# Altium schematic symbol library kmilo17pet-NSC_MiscPower.SchLib: 1552 symbols (part 29 of 43)
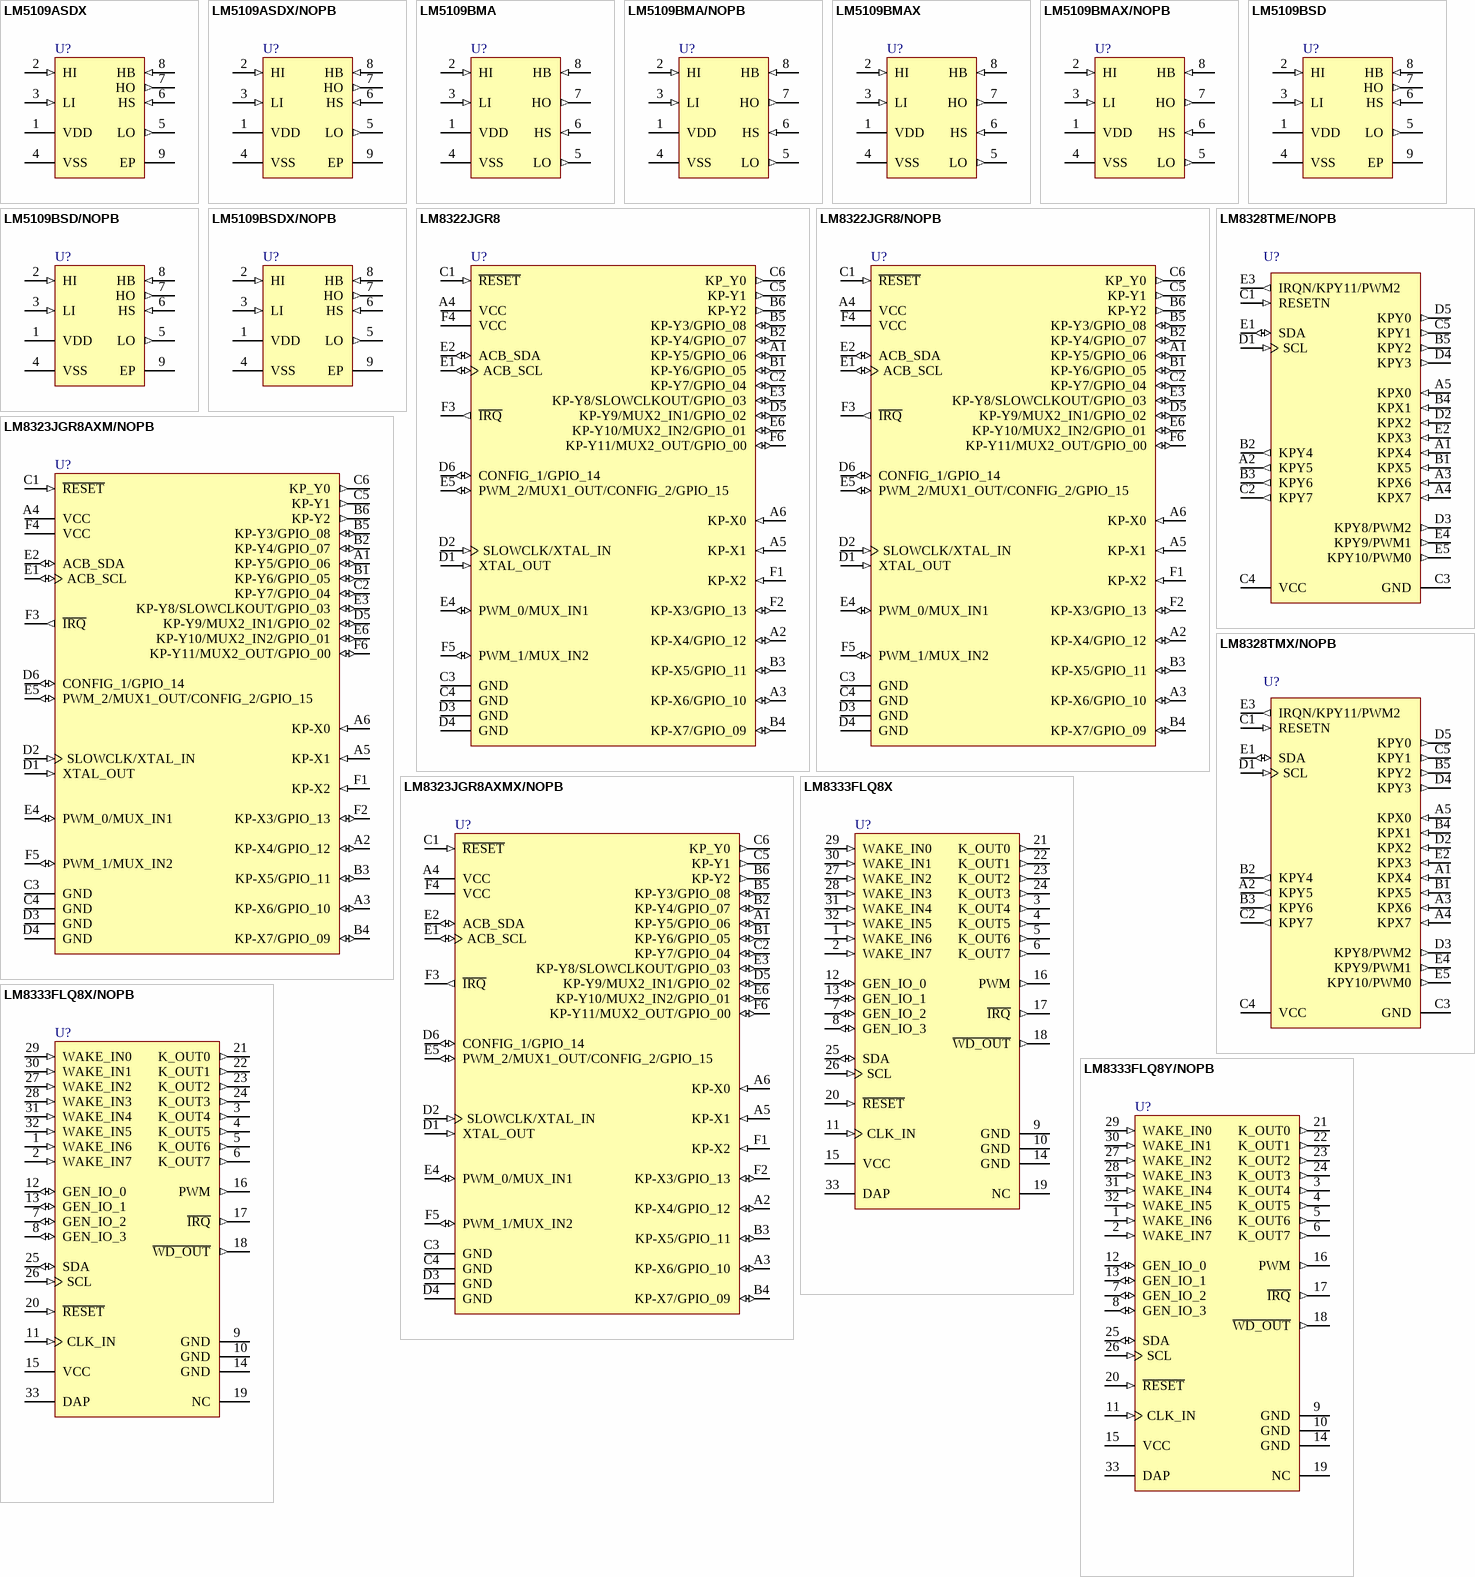
[diagram p85: symbols LM5109ASDX to LM8333FLQ8Y/NOPB]

## LM8323JGR8AXMX/NOPB
designator U?
Mobile I/O Companion Supporting Keyscan, I/O Expansion, PWM, and ACCESS.bus Host Interface, 36 pin MICRO-ARRAY; PartNumber: LM8323JGR8AXMX/NOPB; Manufacturer: National Semiconductor; PackageTopMarking: NS*UZXYTT*LM8323; PowerWise: N; CompType: MiscPower; High-Reliability: Y; DatasheetVersion: Jul-2010; PackageVersion: revA, Mar-2004; PackageReference: GRA36A; PackageDescription: Micro-Array, 3.5 x 3.5 x 1mm, 36 Ball, 0.5mm Pitch; RoHS: Y; PinCount: 36; ComponentLink1Description: Manufacturer URL; ComponentLink1URL: http://www.national.com/; ComponentLink2Description: LM8323 Datasheet; ComponentLink2URL: http://www.national.com/ds/LM/LM8323.pdf; ComponentLink3Description: LM8323 Web Page; ComponentLink3URL: http://www.national.com/pf/LM/LM8323.html; ComponentLink4Description: GRA36A Package Page; ComponentLink4URL: http://www.national.com/packaging/folders/gra36a.html
footprint GRA36A (BGA, 36-Leads, Body 3.5x3.5mm, Pitch 0.5mm, NSC Recommended)
pins: A1 KP-Y5/GPIO_06 (io) "Keyboard scanning output 5, General-purpose I/O port 6", A2 KP-X4/GPIO_12 (io) "Wake-up input/Keyboard scanning input 4, General-purpose I/O port 12", A3 KP-X6/GPIO_10 (io) "Wake-up input/Keyboard scanning input 6, General-purpose I/O port 10", A4 VCC (power), A5 KP-X1 (in) "Wake-up input/Keyboard scanning input 1", A6 KP-X0 (in) "Wake-up input/Keyboard scanning input 0", B1 KP-Y6/GPIO_05 (io) "Keyboard scanning output 6, General-purpose I/O port 5", B2 KP-Y4/GPIO_07 (io) "Keyboard scanning output 4, General-purpose I/O port 7", B3 KP-X5/GPIO_11 (io) "Wake-up input/Keyboard scanning input 5, General-purpose I/O port 11", B4 KP-X7/GPIO_09 (io) "Wake-up input/Keyboard scanning input 7, General-purpose I/O port 9", B5 KP-Y3/GPIO_08 (io) "Keyboard scanning output 3, General-purpose I/O port 8", B6 KP-Y2 (out) "Keyboard scanning output 2", C1 ~{RESET} (in) "Reset Input", C2 KP-Y7/GPIO_04 (io) "Keyboard scanning output 7, General-purpose I/O port 4", C3 GND (power) "Ground", C4 GND (power) "Ground", C5 KP-Y1 (out) "Keyboard scanning output 1", C6 KP_Y0 (out) "Keyboard scanning output 0", D1 XTAL_OUT (in) "32.768 kHz crystal output", D2 SLOWCLK/XTAL_IN (in) "32.768 kHz clock, 32.768 kHz crystal input", D3 GND (power) "Ground", D4 GND (power) "Ground", D5 KP-Y9/MUX2_IN1/GPIO_02 (io) "Keyboard scanning output 9, Multiplexer 2 input 1, General-purpose I/O port 2", D6 CONFIG_1/GPIO_14 (io) "Slave address select input 1, General-purpose I/O port 14", E1 ACB_SCL (io) "ACCESS.bus clock signal", E2 ACB_SDA (io) "ACCESS.bus data signal", E3 KP-Y8/SLOWCLKOUT/GPIO_03 (io) "Keyboard scanning output 8, 32.768 kHz clock output, General-purpose I/O port 3", E4 PWM_0/MUX_IN1 (io) "Pulse-width modulated output 0, Multiplexer 1 input 1", E5 PWM_2/MUX1_OUT/CONFIG_2/GPIO_15 (io) "Pulse-width modulated output 2, Multiplexer 1 output, Slave address select input 2, General-purpose I/O port 15", E6 KP-Y10/MUX2_IN2/GPIO_01 (io) "Keyboard scanning output 10, Multiplexer 2 input 2, General-purpose I/O port 1", F1 KP-X2 (in) "Wake-up input/Keyboard scanning input 2", F2 KP-X3/GPIO_13 (io) "Wake-up input/Keyboard scanning input 3, General-purpose I/O port 13", F3 ~{IRQ} (out) "Interrupt request output", F4 VCC (power), F5 PWM_1/MUX_IN2 (io) "Pulse-width modulated output 1, Multiplexer 1 input 2", F6 KP-Y11/MUX2_OUT/GPIO_00 (io) "Keyboard scanning output 11, Multiplexer 2 output, General-purpose I/O port 0"

## LM8328TME/NOPB
designator U?
Mobile I/O Companion Supporting Keyscan, I/O Expansion, PWM, and ACCESS.bus Host Interface, 25-pin Micro SMD, 250 Reel; PartNumber: LM8328TME/NOPB; Manufacturer: National Semiconductor; PackageTopMarking: XYTT*I 2731; PowerWise: N; CompType: MiscPower; High-Reliability: Y; DatasheetVersion: Aug-2011; PackageVersion: revC, 2009; PackageReference: TMD25AAA; PackageDescription: Thin Micro SMD, 25 Bump, 0.4mm Pitch; RoHS: Y; PinCount: 25; ComponentLink1Description: Manufacturer URL; ComponentLink1URL: http://www.national.com/; ComponentLink2Description: LM8328 Datasheet; ComponentLink2URL: http://www.national.com/ds/LM/LM8328.pdf; ComponentLink3Description: LM8328 Web Page; ComponentLink3URL: http://www.national.com/pf/LM/LM8328.html; ComponentLink4Description: TMD25AAA Package Page; ComponentLink4URL: http://www.national.com/packaging/folders/tmd25aaa.html
footprint TMD25AAA (Micro SMD, 25-Leads, Body 2.02x2.02mm, Pitch 0.4mm, NSC Recommended)
pins: A1 KPX4 (in), A2 KPY5 (out), A3 KPX6 (in), A4 KPX7 (in), A5 KPX0 (in), B1 KPX5 (in), B2 KPY4 (out), B3 KPY6 (out), B4 KPX1 (in), B5 KPY2 (out), C1 RESETN (in), C2 KPY7 (out), C3 GND (power), C4 VCC (power), C5 KPY1 (out), D1 SCL (in), D2 KPX2 (in), D3 KPY8/PWM2 (out), D4 KPY3 (out), D5 KPY0 (out), E1 SDA (io), E2 KPX3 (in), E3 IRQN/KPY11/PWM2 (out), E4 KPY9/PWM1 (out), E5 KPY10/PWM0 (out)

## LM8328TMX/NOPB
designator U?
Mobile I/O Companion Supporting Keyscan, I/O Expansion, PWM, and ACCESS.bus Host Interface, 25-pin Micro SMD, 3000 Reel; PartNumber: LM8328TMX/NOPB; Manufacturer: National Semiconductor; PackageTopMarking: XYTT*I 2731; PowerWise: N; CompType: MiscPower; High-Reliability: Y; DatasheetVersion: Aug-2011; PackageVersion: revC, 2009; PackageReference: TMD25AAA; PackageDescription: Thin Micro SMD, 25 Bump, 0.4mm Pitch; RoHS: Y; PinCount: 25; ComponentLink1Description: Manufacturer URL; ComponentLink1URL: http://www.national.com/; ComponentLink2Description: LM8328 Datasheet; ComponentLink2URL: http://www.national.com/ds/LM/LM8328.pdf; ComponentLink3Description: LM8328 Web Page; ComponentLink3URL: http://www.national.com/pf/LM/LM8328.html; ComponentLink4Description: TMD25AAA Package Page; ComponentLink4URL: http://www.national.com/packaging/folders/tmd25aaa.html
footprint TMD25AAA (Micro SMD, 25-Leads, Body 2.02x2.02mm, Pitch 0.4mm, NSC Recommended)
pins: A1 KPX4 (in), A2 KPY5 (out), A3 KPX6 (in), A4 KPX7 (in), A5 KPX0 (in), B1 KPX5 (in), B2 KPY4 (out), B3 KPY6 (out), B4 KPX1 (in), B5 KPY2 (out), C1 RESETN (in), C2 KPY7 (out), C3 GND (power), C4 VCC (power), C5 KPY1 (out), D1 SCL (in), D2 KPX2 (in), D3 KPY8/PWM2 (out), D4 KPY3 (out), D5 KPY0 (out), E1 SDA (io), E2 KPX3 (in), E3 IRQN/KPY11/PWM2 (out), E4 KPY9/PWM1 (out), E5 KPY10/PWM0 (out)

## LM8333FLQ8X
designator U?
Mobile I/O Companion Supporting Key-Scan, I/O Expansion, PWM, and ACCESS.bus Host Interface, 32-pin LLP; PartNumber: LM8333FLQ8X; Manufacturer: National Semiconductor; PackageTopMarking: NS*UZXYTT*LM8333F; PowerWise: N; CompType: MiscPower; High-Reliability: Y; DatasheetVersion: May-2010; PackageVersion: revA, Feb-2001; PackageReference: LQA32A; PackageDescription: LLP, Plastic, Quad, 6 x 6 x 0.8mm Body, 32 Lead, 0.5mm Pitch; RoHS: Y; PinCount: 32; ComponentLink1Description: Manufacturer URL; ComponentLink1URL: http://www.national.com/; ComponentLink2Description: LM8333 Datasheet; ComponentLink2URL: http://www.national.com/ds/LM/LM8333.pdf; ComponentLink3Description: LM8333 Web Page; ComponentLink3URL: http://www.national.com/pf/LM/LM8333.html; ComponentLink4Description: LQA32A Package Page; ComponentLink4URL: http://www.national.com/packaging/folders/lqa32a.html
footprint LQA32A (PQFN, 32-Leads, Body 6x6mm, Pitch 0.5mm, Thermal Pad 4.3x4.3mm, NSC Recommended)
pins: 1 WAKE_IN6 (in) "Wake-up input/Keyboard scanning input 6", 2 WAKE_IN7 (in) "Wake-up input/Keyboard scanning input 7", 3 K_OUT4 (out) "Keyboard scanning output 4", 4 K_OUT5 (out) "Keyboard scanning output 5", 5 K_OUT6 (out) "Keyboard scanning output 6", 6 K_OUT7 (out) "Keyboard scanning output 7", 7 GEN_IO_2 (io) "General-purpose I/O 2", 8 GEN_IO_3 (io) "General-purpose I/O 3", 9 GND (power) "Ground", 10 GND (power) "Ground", 11 CLK_IN (in) "Clock input", 12 GEN_IO_0 (io) "General-purpose I/O 0", 13 GEN_IO_1 (io) "General-purpose I/O 1", 14 GND (power) "Ground", 15 VCC (power) "Vcc", 16 PWM (out) "Pulse-width modulated output", 17 ~{IRQ} (out) "Interrupt request output", 18 ~{WD_OUT} (out) "Watchdog timer output", 19 NC "No connect", 20 ~{RESET} (in) "Reset input", 21 K_OUT0 (out) "Keyboard scanning output 0", 22 K_OUT1 (out) "Keyboard scanning output 1", 23 K_OUT2 (out) "Keyboard scanning output 2", 24 K_OUT3 (out) "Keyboard scanning output 3", 25 SDA (io) "ACCESS.bus data signal", 26 SCL (in) "ACCESS.bus clock signal", 27 WAKE_IN2 (in) "Wake-up input/Keyboard scanning input 2", 28 WAKE_IN3 (in) "Wake-up input/Keyboard scanning input 3", 29 WAKE_IN0 (in) "Wake-up input/Keyboard scanning input 0", 30 WAKE_IN1 (in) "Wake-up input/Keyboard scanning input 1", 31 WAKE_IN4 (in) "Wake-up input/Keyboard scanning input 4", 32 WAKE_IN5 (in) "Wake-up input/Keyboard scanning input 5", 33 DAP (power) "Ground"

## LM8333FLQ8X/NOPB
designator U?
Mobile I/O Companion Supporting Key-Scan, I/O Expansion, PWM, and ACCESS.bus Host Interface, 32-pin LLP, Pb-Free; PartNumber: LM8333FLQ8X/NOPB; Manufacturer: National Semiconductor; PackageTopMarking: NS*UZXYTTE#*LM8333F; PowerWise: N; CompType: MiscPower; High-Reliability: Y; DatasheetVersion: May-2010; PackageVersion: revA, Feb-2001; PackageReference: LQA32A; PackageDescription: LLP, Plastic, Quad, 6 x 6 x 0.8mm Body, 32 Lead, 0.5mm Pitch; RoHS: Y; PinCount: 32; ComponentLink1Description: Manufacturer URL; ComponentLink1URL: http://www.national.com/; ComponentLink2Description: LM8333 Datasheet; ComponentLink2URL: http://www.national.com/ds/LM/LM8333.pdf; ComponentLink3Description: LM8333 Web Page; ComponentLink3URL: http://www.national.com/pf/LM/LM8333.html; ComponentLink4Description: LQA32A Package Page; ComponentLink4URL: http://www.national.com/packaging/folders/lqa32a.html
footprint LQA32A (PQFN, 32-Leads, Body 6x6mm, Pitch 0.5mm, Thermal Pad 4.3x4.3mm, NSC Recommended)
pins: 1 WAKE_IN6 (in) "Wake-up input/Keyboard scanning input 6", 2 WAKE_IN7 (in) "Wake-up input/Keyboard scanning input 7", 3 K_OUT4 (out) "Keyboard scanning output 4", 4 K_OUT5 (out) "Keyboard scanning output 5", 5 K_OUT6 (out) "Keyboard scanning output 6", 6 K_OUT7 (out) "Keyboard scanning output 7", 7 GEN_IO_2 (io) "General-purpose I/O 2", 8 GEN_IO_3 (io) "General-purpose I/O 3", 9 GND (power) "Ground", 10 GND (power) "Ground", 11 CLK_IN (in) "Clock input", 12 GEN_IO_0 (io) "General-purpose I/O 0", 13 GEN_IO_1 (io) "General-purpose I/O 1", 14 GND (power) "Ground", 15 VCC (power) "Vcc", 16 PWM (out) "Pulse-width modulated output", 17 ~{IRQ} (out) "Interrupt request output", 18 ~{WD_OUT} (out) "Watchdog timer output", 19 NC "No connect", 20 ~{RESET} (in) "Reset input", 21 K_OUT0 (out) "Keyboard scanning output 0", 22 K_OUT1 (out) "Keyboard scanning output 1", 23 K_OUT2 (out) "Keyboard scanning output 2", 24 K_OUT3 (out) "Keyboard scanning output 3", 25 SDA (io) "ACCESS.bus data signal", 26 SCL (in) "ACCESS.bus clock signal", 27 WAKE_IN2 (in) "Wake-up input/Keyboard scanning input 2", 28 WAKE_IN3 (in) "Wake-up input/Keyboard scanning input 3", 29 WAKE_IN0 (in) "Wake-up input/Keyboard scanning input 0", 30 WAKE_IN1 (in) "Wake-up input/Keyboard scanning input 1", 31 WAKE_IN4 (in) "Wake-up input/Keyboard scanning input 4", 32 WAKE_IN5 (in) "Wake-up input/Keyboard scanning input 5", 33 DAP (power) "Ground"

## LM8333FLQ8Y/NOPB
designator U?
Mobile I/O Companion Supporting Key-Scan, I/O Expansion, PWM, and ACCESS.bus Host Interface, 32-pin LLP, Pb-Free; PartNumber: LM8333FLQ8Y/NOPB; Manufacturer: National Semiconductor; PackageTopMarking: NS*UZXYTTE#*LM8333F; PowerWise: N; CompType: MiscPower; High-Reliability: Y; DatasheetVersion: May-2010; PackageVersion: revA, Feb-2001; PackageReference: LQA32A; PackageDescription: LLP, Plastic, Quad, 6 x 6 x 0.8mm Body, 32 Lead, 0.5mm Pitch; RoHS: Y; PinCount: 32; ComponentLink1Description: Manufacturer URL; ComponentLink1URL: http://www.national.com/; ComponentLink2Description: LM8333 Datasheet; ComponentLink2URL: http://www.national.com/ds/LM/LM8333.pdf; ComponentLink3Description: LM8333 Web Page; ComponentLink3URL: http://www.national.com/pf/LM/LM8333.html; ComponentLink4Description: LQA32A Package Page; ComponentLink4URL: http://www.national.com/packaging/folders/lqa32a.html
footprint LQA32A (PQFN, 32-Leads, Body 6x6mm, Pitch 0.5mm, Thermal Pad 4.3x4.3mm, NSC Recommended)
pins: 1 WAKE_IN6 (in) "Wake-up input/Keyboard scanning input 6", 2 WAKE_IN7 (in) "Wake-up input/Keyboard scanning input 7", 3 K_OUT4 (out) "Keyboard scanning output 4", 4 K_OUT5 (out) "Keyboard scanning output 5", 5 K_OUT6 (out) "Keyboard scanning output 6", 6 K_OUT7 (out) "Keyboard scanning output 7", 7 GEN_IO_2 (io) "General-purpose I/O 2", 8 GEN_IO_3 (io) "General-purpose I/O 3", 9 GND (power) "Ground", 10 GND (power) "Ground", 11 CLK_IN (in) "Clock input", 12 GEN_IO_0 (io) "General-purpose I/O 0", 13 GEN_IO_1 (io) "General-purpose I/O 1", 14 GND (power) "Ground", 15 VCC (power) "Vcc", 16 PWM (out) "Pulse-width modulated output", 17 ~{IRQ} (out) "Interrupt request output", 18 ~{WD_OUT} (out) "Watchdog timer output", 19 NC "No connect", 20 ~{RESET} (in) "Reset input", 21 K_OUT0 (out) "Keyboard scanning output 0", 22 K_OUT1 (out) "Keyboard scanning output 1", 23 K_OUT2 (out) "Keyboard scanning output 2", 24 K_OUT3 (out) "Keyboard scanning output 3", 25 SDA (io) "ACCESS.bus data signal", 26 SCL (in) "ACCESS.bus clock signal", 27 WAKE_IN2 (in) "Wake-up input/Keyboard scanning input 2", 28 WAKE_IN3 (in) "Wake-up input/Keyboard scanning input 3", 29 WAKE_IN0 (in) "Wake-up input/Keyboard scanning input 0", 30 WAKE_IN1 (in) "Wake-up input/Keyboard scanning input 1", 31 WAKE_IN4 (in) "Wake-up input/Keyboard scanning input 4", 32 WAKE_IN5 (in) "Wake-up input/Keyboard scanning input 5", 33 DAP (power) "Ground"

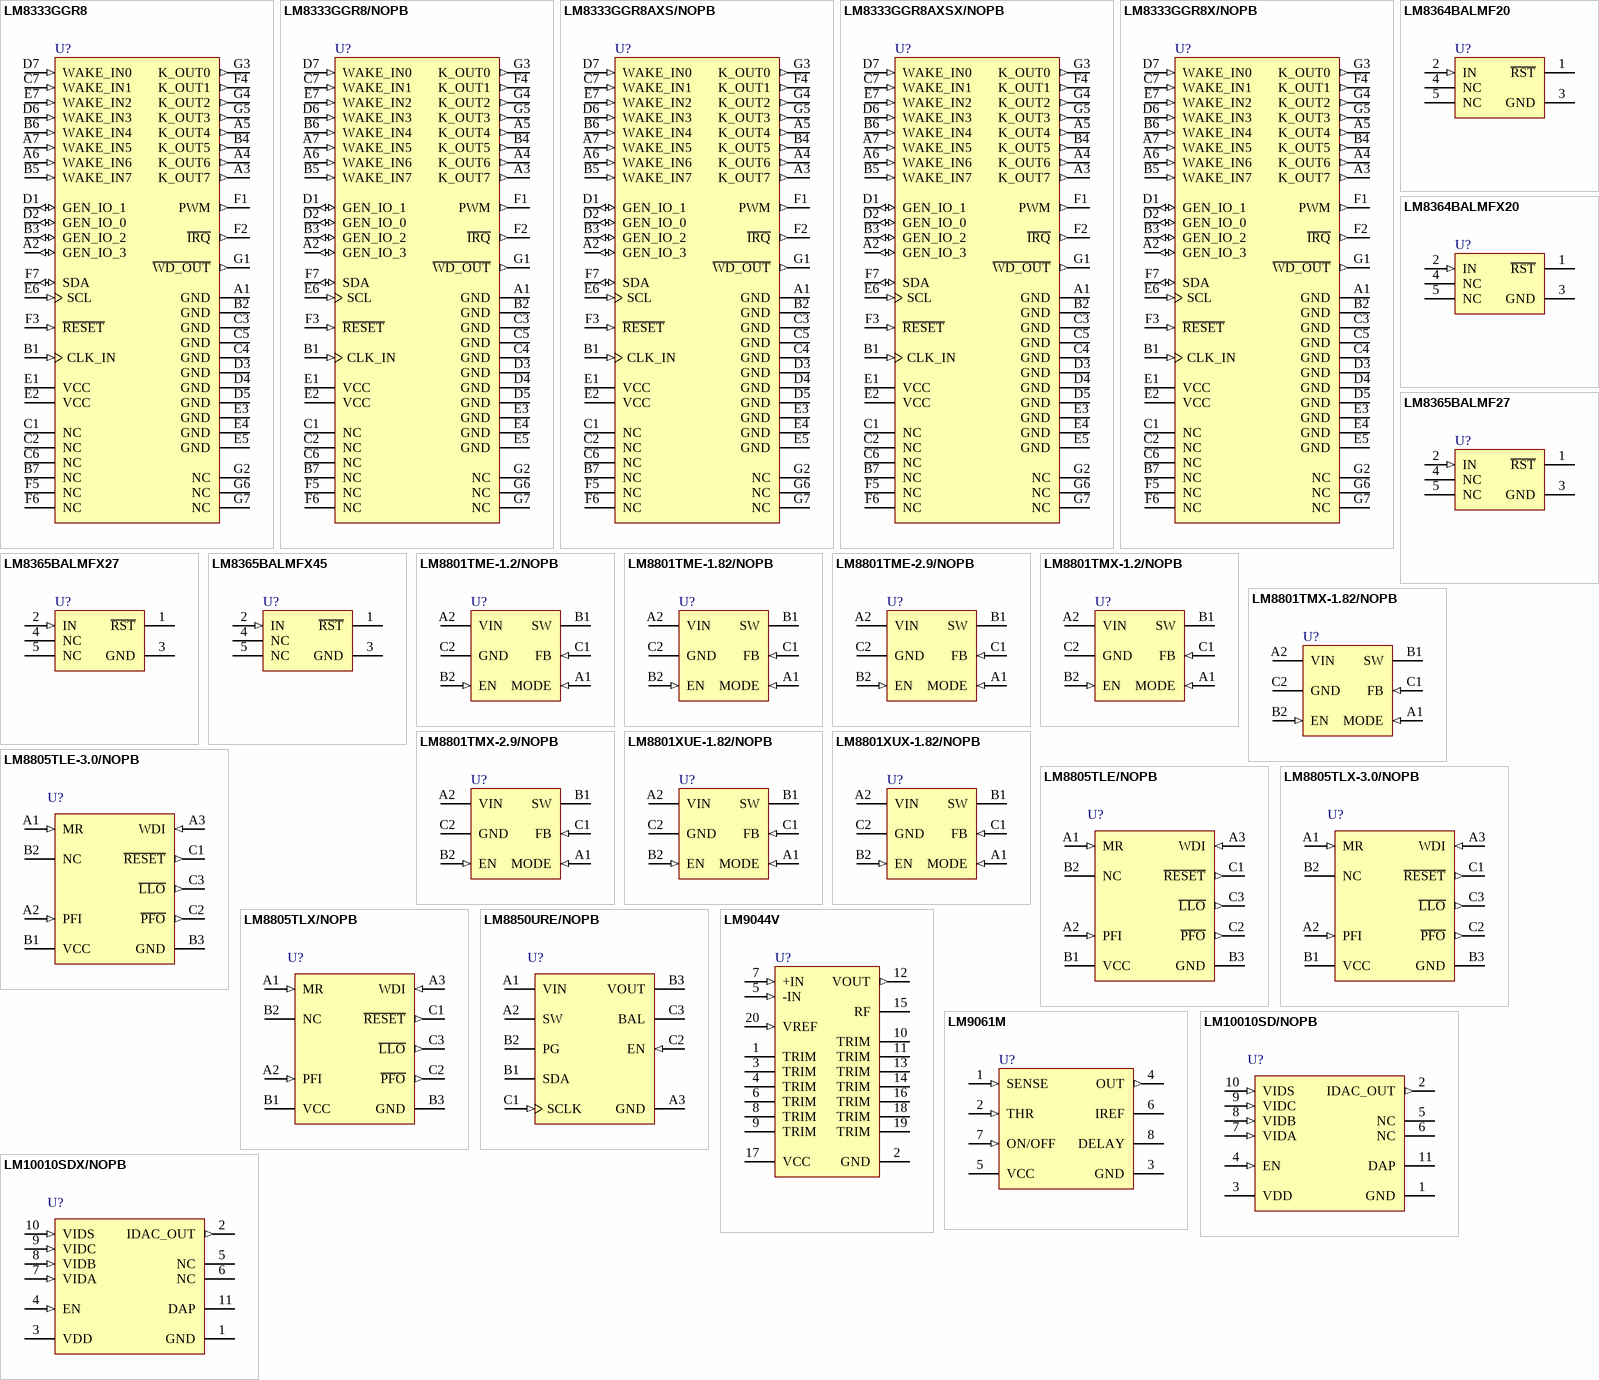
[diagram p32: symbols LM8333GGR8 to LM10010SDX/NOPB]

## LM8333GGR8
designator U?
Mobile I/O Companion Supporting Key-Scan, I/O Expansion, PWM, and ACCESS.bus Host Interface, 49-pin Micro-Array; PartNumber: LM8333GGR8; Manufacturer: National Semiconductor; PackageTopMarking: NS*UZXYTT*LM8333; PowerWise: N; CompType: MiscPower; High-Reliability: Y; DatasheetVersion: May-2010; PackageVersion: revA, Nov-2003; PackageReference: GRA49A; PackageDescription: Micro-Array, 4 x 4 x 1mm Body, 49 Ball, 0.5mm Pitch; RoHS: Y; PinCount: 49; ComponentLink1Description: Manufacturer URL; ComponentLink1URL: http://www.national.com/; ComponentLink2Description: LM8333 Datasheet; ComponentLink2URL: http://www.national.com/ds/LM/LM8333.pdf; ComponentLink3Description: LM8333 Web Page; ComponentLink3URL: http://www.national.com/pf/LM/LM8333.html; ComponentLink4Description: GRA49A Package Page; ComponentLink4URL: http://www.national.com/packaging/folders/gra49a.html
footprint GRA49A (BGA, 49-Leads, Body 4x4mm, Pitch 0.5mm, NSC Recommended)
pins: A1 GND (power) "Ground", A2 GEN_IO_3 (io) "General-purpose I/O 3", A3 K_OUT7 (out) "Keyboard scanning output 7", A4 K_OUT6 (out) "Keyboard scanning output 6", A5 K_OUT4 (out) "Keyboard scanning output 4", A6 WAKE_IN6 (in) "Wake-up input/Keyboard scanning input 6", A7 WAKE_IN5 (in) "Wake-up input/Keyboard scanning input 5", B1 CLK_IN (in) "Clock input", B2 GND (power) "Ground", B3 GEN_IO_2 (io) "General-purpose I/O 2", B4 K_OUT5 (out) "Keyboard scanning output 5", B5 WAKE_IN7 (in) "Wake-up input/Keyboard scanning input 7", B6 WAKE_IN4 (in) "Wake-up input/Keyboard scanning input 4", B7 NC "No connect", C1 NC "No connect", C2 NC "No connect", C3 GND (power) "Ground", C4 GND (power) "Ground", C5 GND (power) "Ground", C6 NC "No connect", C7 WAKE_IN1 (in) "Wake-up input/Keyboard scanning input 1", D1 GEN_IO_1 (io) "General-purpose I/O 1", D2 GEN_IO_0 (io) "General-purpose I/O 0", D3 GND (power) "Ground", D4 GND (power) "Ground", D5 GND (power) "Ground", D6 WAKE_IN3 (in) "Wake-up input/Keyboard scanning input 3", D7 WAKE_IN0 (in) "Wake-up input/Keyboard scanning input 0", E1 VCC (power) "Vcc", E2 VCC (power) "Vcc", E3 GND (power) "Ground", E4 GND (power) "Ground", E5 GND (power) "Ground", E6 SCL (in) "ACCESS.bus clock signal", E7 WAKE_IN2 (in) "Wake-up input/Keyboard scanning input 2", F1 PWM (out) "Pulse-width modulated output", F2 ~{IRQ} (out) "Interrupt request output", F3 ~{RESET} (in) "Reset input", F4 K_OUT1 (out) "Keyboard scanning output 1", F5 NC "No connect", F6 NC "No connect", F7 SDA (io) "ACCESS.bus data signal", G1 ~{WD_OUT} (out) "Watchdog timer output", G2 NC "No connect", G3 K_OUT0 (out) "Keyboard scanning output 0", G4 K_OUT2 (out) "Keyboard scanning output 2", G5 K_OUT3 (out) "Keyboard scanning output 3", G6 NC "No connect", G7 NC "No connect"

## LM8333GGR8/NOPB
designator U?
Mobile I/O Companion Supporting Key-Scan, I/O Expansion, PWM, and ACCESS.bus Host Interface, 49-pin Micro-Array, Pb-Free; PartNumber: LM8333GGR8/NOPB; Manufacturer: National Semiconductor; PackageTopMarking: NS*UZXYTT*LM8333; PowerWise: N; CompType: MiscPower; High-Reliability: Y; DatasheetVersion: May-2010; PackageVersion: revA, Nov-2003; PackageReference: GRA49A; PackageDescription: Micro-Array, 4 x 4 x 1mm Body, 49 Ball, 0.5mm Pitch; RoHS: Y; PinCount: 49; ComponentLink1Description: Manufacturer URL; ComponentLink1URL: http://www.national.com/; ComponentLink2Description: LM8333 Datasheet; ComponentLink2URL: http://www.national.com/ds/LM/LM8333.pdf; ComponentLink3Description: LM8333 Web Page; ComponentLink3URL: http://www.national.com/pf/LM/LM8333.html; ComponentLink4Description: GRA49A Package Page; ComponentLink4URL: http://www.national.com/packaging/folders/gra49a.html
footprint GRA49A (BGA, 49-Leads, Body 4x4mm, Pitch 0.5mm, NSC Recommended)
pins: A1 GND (power) "Ground", A2 GEN_IO_3 (io) "General-purpose I/O 3", A3 K_OUT7 (out) "Keyboard scanning output 7", A4 K_OUT6 (out) "Keyboard scanning output 6", A5 K_OUT4 (out) "Keyboard scanning output 4", A6 WAKE_IN6 (in) "Wake-up input/Keyboard scanning input 6", A7 WAKE_IN5 (in) "Wake-up input/Keyboard scanning input 5", B1 CLK_IN (in) "Clock input", B2 GND (power) "Ground", B3 GEN_IO_2 (io) "General-purpose I/O 2", B4 K_OUT5 (out) "Keyboard scanning output 5", B5 WAKE_IN7 (in) "Wake-up input/Keyboard scanning input 7", B6 WAKE_IN4 (in) "Wake-up input/Keyboard scanning input 4", B7 NC "No connect", C1 NC "No connect", C2 NC "No connect", C3 GND (power) "Ground", C4 GND (power) "Ground", C5 GND (power) "Ground", C6 NC "No connect", C7 WAKE_IN1 (in) "Wake-up input/Keyboard scanning input 1", D1 GEN_IO_1 (io) "General-purpose I/O 1", D2 GEN_IO_0 (io) "General-purpose I/O 0", D3 GND (power) "Ground", D4 GND (power) "Ground", D5 GND (power) "Ground", D6 WAKE_IN3 (in) "Wake-up input/Keyboard scanning input 3", D7 WAKE_IN0 (in) "Wake-up input/Keyboard scanning input 0", E1 VCC (power) "Vcc", E2 VCC (power) "Vcc", E3 GND (power) "Ground", E4 GND (power) "Ground", E5 GND (power) "Ground", E6 SCL (in) "ACCESS.bus clock signal", E7 WAKE_IN2 (in) "Wake-up input/Keyboard scanning input 2", F1 PWM (out) "Pulse-width modulated output", F2 ~{IRQ} (out) "Interrupt request output", F3 ~{RESET} (in) "Reset input", F4 K_OUT1 (out) "Keyboard scanning output 1", F5 NC "No connect", F6 NC "No connect", F7 SDA (io) "ACCESS.bus data signal", G1 ~{WD_OUT} (out) "Watchdog timer output", G2 NC "No connect", G3 K_OUT0 (out) "Keyboard scanning output 0", G4 K_OUT2 (out) "Keyboard scanning output 2", G5 K_OUT3 (out) "Keyboard scanning output 3", G6 NC "No connect", G7 NC "No connect"

## LM8333GGR8AXS/NOPB
designator U?
Mobile I/O Companion Supporting Key-Scan, I/O Expansion, PWM, and ACCESS.bus Host Interface, 49 pin MICRO-ARRAY; PartNumber: LM8333GGR8AXS/NOPB; Manufacturer: National Semiconductor; PackageTopMarking: NS*UZXYTT*8333AXS; PowerWise: N; CompType: MiscPower; High-Reliability: Y; DatasheetVersion: May-2010; PackageVersion: revA, Nov-2003; PackageReference: GRA49A; PackageDescription: Micro-Array, 4 x 4 x 1mm Body, 49 Ball, 0.5mm Pitch; RoHS: Y; PinCount: 49; ComponentLink1Description: Manufacturer URL; ComponentLink1URL: http://www.national.com/; ComponentLink2Description: LM8333 Datasheet; ComponentLink2URL: http://www.national.com/ds/LM/LM8333.pdf; ComponentLink3Description: LM8333 Web Page; ComponentLink3URL: http://www.national.com/pf/LM/LM8333.html; ComponentLink4Description: GRA49A Package Page; ComponentLink4URL: http://www.national.com/packaging/folders/gra49a.html
footprint GRA49A (BGA, 49-Leads, Body 4x4mm, Pitch 0.5mm, NSC Recommended)
pins: A1 GND (power) "Ground", A2 GEN_IO_3 (io) "General-purpose I/O 3", A3 K_OUT7 (out) "Keyboard scanning output 7", A4 K_OUT6 (out) "Keyboard scanning output 6", A5 K_OUT4 (out) "Keyboard scanning output 4", A6 WAKE_IN6 (in) "Wake-up input/Keyboard scanning input 6", A7 WAKE_IN5 (in) "Wake-up input/Keyboard scanning input 5", B1 CLK_IN (in) "Clock input", B2 GND (power) "Ground", B3 GEN_IO_2 (io) "General-purpose I/O 2", B4 K_OUT5 (out) "Keyboard scanning output 5", B5 WAKE_IN7 (in) "Wake-up input/Keyboard scanning input 7", B6 WAKE_IN4 (in) "Wake-up input/Keyboard scanning input 4", B7 NC "No connect", C1 NC "No connect", C2 NC "No connect", C3 GND (power) "Ground", C4 GND (power) "Ground", C5 GND (power) "Ground", C6 NC "No connect", C7 WAKE_IN1 (in) "Wake-up input/Keyboard scanning input 1", D1 GEN_IO_1 (io) "General-purpose I/O 1", D2 GEN_IO_0 (io) "General-purpose I/O 0", D3 GND (power) "Ground", D4 GND (power) "Ground", D5 GND (power) "Ground", D6 WAKE_IN3 (in) "Wake-up input/Keyboard scanning input 3", D7 WAKE_IN0 (in) "Wake-up input/Keyboard scanning input 0", E1 VCC (power) "Vcc", E2 VCC (power) "Vcc", E3 GND (power) "Ground", E4 GND (power) "Ground", E5 GND (power) "Ground", E6 SCL (in) "ACCESS.bus clock signal", E7 WAKE_IN2 (in) "Wake-up input/Keyboard scanning input 2", F1 PWM (out) "Pulse-width modulated output", F2 ~{IRQ} (out) "Interrupt request output", F3 ~{RESET} (in) "Reset input", F4 K_OUT1 (out) "Keyboard scanning output 1", F5 NC "No connect", F6 NC "No connect", F7 SDA (io) "ACCESS.bus data signal", G1 ~{WD_OUT} (out) "Watchdog timer output", G2 NC "No connect", G3 K_OUT0 (out) "Keyboard scanning output 0", G4 K_OUT2 (out) "Keyboard scanning output 2", G5 K_OUT3 (out) "Keyboard scanning output 3", G6 NC "No connect", G7 NC "No connect"

## LM8333GGR8AXSX/NOPB
designator U?
Mobile I/O Companion Supporting Key-Scan, I/O Expansion, PWM, and ACCESS.bus Host Interface, 49 pin MICRO-ARRAY; PartNumber: LM8333GGR8AXSX/NOPB; Manufacturer: National Semiconductor; PackageTopMarking: NS*UZXYTT*8333AXS; PowerWise: N; CompType: MiscPower; High-Reliability: Y; DatasheetVersion: May-2010; PackageVersion: revA, Nov-2003; PackageReference: GRA49A; PackageDescription: Micro-Array, 4 x 4 x 1mm Body, 49 Ball, 0.5mm Pitch; RoHS: Y; PinCount: 49; ComponentLink1Description: Manufacturer URL; ComponentLink1URL: http://www.national.com/; ComponentLink2Description: LM8333 Datasheet; ComponentLink2URL: http://www.national.com/ds/LM/LM8333.pdf; ComponentLink3Description: LM8333 Web Page; ComponentLink3URL: http://www.national.com/pf/LM/LM8333.html; ComponentLink4Description: GRA49A Package Page; ComponentLink4URL: http://www.national.com/packaging/folders/gra49a.html
footprint GRA49A (BGA, 49-Leads, Body 4x4mm, Pitch 0.5mm, NSC Recommended)
pins: A1 GND (power) "Ground", A2 GEN_IO_3 (io) "General-purpose I/O 3", A3 K_OUT7 (out) "Keyboard scanning output 7", A4 K_OUT6 (out) "Keyboard scanning output 6", A5 K_OUT4 (out) "Keyboard scanning output 4", A6 WAKE_IN6 (in) "Wake-up input/Keyboard scanning input 6", A7 WAKE_IN5 (in) "Wake-up input/Keyboard scanning input 5", B1 CLK_IN (in) "Clock input", B2 GND (power) "Ground", B3 GEN_IO_2 (io) "General-purpose I/O 2", B4 K_OUT5 (out) "Keyboard scanning output 5", B5 WAKE_IN7 (in) "Wake-up input/Keyboard scanning input 7", B6 WAKE_IN4 (in) "Wake-up input/Keyboard scanning input 4", B7 NC "No connect", C1 NC "No connect", C2 NC "No connect", C3 GND (power) "Ground", C4 GND (power) "Ground", C5 GND (power) "Ground", C6 NC "No connect", C7 WAKE_IN1 (in) "Wake-up input/Keyboard scanning input 1", D1 GEN_IO_1 (io) "General-purpose I/O 1", D2 GEN_IO_0 (io) "General-purpose I/O 0", D3 GND (power) "Ground", D4 GND (power) "Ground", D5 GND (power) "Ground", D6 WAKE_IN3 (in) "Wake-up input/Keyboard scanning input 3", D7 WAKE_IN0 (in) "Wake-up input/Keyboard scanning input 0", E1 VCC (power) "Vcc", E2 VCC (power) "Vcc", E3 GND (power) "Ground", E4 GND (power) "Ground", E5 GND (power) "Ground", E6 SCL (in) "ACCESS.bus clock signal", E7 WAKE_IN2 (in) "Wake-up input/Keyboard scanning input 2", F1 PWM (out) "Pulse-width modulated output", F2 ~{IRQ} (out) "Interrupt request output", F3 ~{RESET} (in) "Reset input", F4 K_OUT1 (out) "Keyboard scanning output 1", F5 NC "No connect", F6 NC "No connect", F7 SDA (io) "ACCESS.bus data signal", G1 ~{WD_OUT} (out) "Watchdog timer output", G2 NC "No connect", G3 K_OUT0 (out) "Keyboard scanning output 0", G4 K_OUT2 (out) "Keyboard scanning output 2", G5 K_OUT3 (out) "Keyboard scanning output 3", G6 NC "No connect", G7 NC "No connect"

## LM8333GGR8X/NOPB
designator U?
Mobile I/O Companion Supporting Key-Scan, I/O Expansion, PWM, and ACCESS.bus Host Interface, 49-pin Micro-Array, Pb-Free; PartNumber: LM8333GGR8X/NOPB; Manufacturer: National Semiconductor; PackageTopMarking: NS*UZXYTT*LM8333; PowerWise: N; CompType: MiscPower; High-Reliability: Y; DatasheetVersion: May-2010; PackageVersion: revA, Nov-2003; PackageReference: GRA49A; PackageDescription: Micro-Array, 4 x 4 x 1mm Body, 49 Ball, 0.5mm Pitch; RoHS: Y; PinCount: 49; ComponentLink1Description: Manufacturer URL; ComponentLink1URL: http://www.national.com/; ComponentLink2Description: LM8333 Datasheet; ComponentLink2URL: http://www.national.com/ds/LM/LM8333.pdf; ComponentLink3Description: LM8333 Web Page; ComponentLink3URL: http://www.national.com/pf/LM/LM8333.html; ComponentLink4Description: GRA49A Package Page; ComponentLink4URL: http://www.national.com/packaging/folders/gra49a.html
footprint GRA49A (BGA, 49-Leads, Body 4x4mm, Pitch 0.5mm, NSC Recommended)
pins: A1 GND (power) "Ground", A2 GEN_IO_3 (io) "General-purpose I/O 3", A3 K_OUT7 (out) "Keyboard scanning output 7", A4 K_OUT6 (out) "Keyboard scanning output 6", A5 K_OUT4 (out) "Keyboard scanning output 4", A6 WAKE_IN6 (in) "Wake-up input/Keyboard scanning input 6", A7 WAKE_IN5 (in) "Wake-up input/Keyboard scanning input 5", B1 CLK_IN (in) "Clock input", B2 GND (power) "Ground", B3 GEN_IO_2 (io) "General-purpose I/O 2", B4 K_OUT5 (out) "Keyboard scanning output 5", B5 WAKE_IN7 (in) "Wake-up input/Keyboard scanning input 7", B6 WAKE_IN4 (in) "Wake-up input/Keyboard scanning input 4", B7 NC "No connect", C1 NC "No connect", C2 NC "No connect", C3 GND (power) "Ground", C4 GND (power) "Ground", C5 GND (power) "Ground", C6 NC "No connect", C7 WAKE_IN1 (in) "Wake-up input/Keyboard scanning input 1", D1 GEN_IO_1 (io) "General-purpose I/O 1", D2 GEN_IO_0 (io) "General-purpose I/O 0", D3 GND (power) "Ground", D4 GND (power) "Ground", D5 GND (power) "Ground", D6 WAKE_IN3 (in) "Wake-up input/Keyboard scanning input 3", D7 WAKE_IN0 (in) "Wake-up input/Keyboard scanning input 0", E1 VCC (power) "Vcc", E2 VCC (power) "Vcc", E3 GND (power) "Ground", E4 GND (power) "Ground", E5 GND (power) "Ground", E6 SCL (in) "ACCESS.bus clock signal", E7 WAKE_IN2 (in) "Wake-up input/Keyboard scanning input 2", F1 PWM (out) "Pulse-width modulated output", F2 ~{IRQ} (out) "Interrupt request output", F3 ~{RESET} (in) "Reset input", F4 K_OUT1 (out) "Keyboard scanning output 1", F5 NC "No connect", F6 NC "No connect", F7 SDA (io) "ACCESS.bus data signal", G1 ~{WD_OUT} (out) "Watchdog timer output", G2 NC "No connect", G3 K_OUT0 (out) "Keyboard scanning output 0", G4 K_OUT2 (out) "Keyboard scanning output 2", G5 K_OUT3 (out) "Keyboard scanning output 3", G6 NC "No connect", G7 NC "No connect"

## LM8364BALMF20
designator U?
Micropower Undervoltage Sensing Circuits, Open Drain Active Low Output, 2.0V Threshold, 5-pin SOT-23; PartNumber: LM8364BALMF20; Manufacturer: National Semiconductor; PackageTopMarking: F01A*XTT; PowerWise: N; CompType: MiscPower; High-Reliability: Y; DatasheetVersion: Mar-2005; PackageVersion: revD, Aug-2008; PackageReference: MF05A; PackageDescription: Molded SOT-23, .115 x .063 x .040 in Body, 5 Lead, .0375 in Pitch; RoHS: N; PinCount: 5; ComponentLink1Description: Manufacturer URL; ComponentLink1URL: http://www.national.com/; ComponentLink2Description: LM8364 Datasheet; ComponentLink2URL: http://www.national.com/ds/LM/LM8364.pdf; ComponentLink3Description: LM8364 Web Page; ComponentLink3URL: http://www.national.com/pf/LM/LM8364.html; ComponentLink4Description: MF05A Package Page; ComponentLink4URL: http://www.national.com/packaging/folders/mf05a.html
footprint MF05A_N (SOT23, 5-Leads, Body 2.9x1.6mm, Pitch 0.95mm, Lead Span 2.8mm, IPC Medium Density)
footprint MF05A_L (SOT23, 5-Leads, Body 2.9x1.6mm, Pitch 0.95mm, Lead Span 2.8mm, IPC High Density)
footprint MF05A_M (SOT23, 5-Leads, Body 2.9x1.6mm, Pitch 0.95mm, Lead Span 2.8mm, IPC Low Density)
pins: 1 ~{RST} (oc), 2 IN (in), 3 GND (power), 4 NC, 5 NC

## LM8364BALMFX20
designator U?
Micropower Undervoltage Sensing Circuits, 5-pin SOT-23; PartNumber: LM8364BALMFX20; Manufacturer: National Semiconductor; PackageTopMarking: F01A*XTT; PowerWise: N; CompType: MiscPower; High-Reliability: Y; DatasheetVersion: Mar-2005; PackageVersion: revD, Aug-2008; PackageReference: MF05A; PackageDescription: Molded SOT-23, .115 x .063 x .040 in Body, 5 Lead, .0375 in Pitch; RoHS: N; PinCount: 5; ComponentLink1Description: Manufacturer URL; ComponentLink1URL: http://www.national.com/; ComponentLink2Description: LM8364 Datasheet; ComponentLink2URL: http://www.national.com/ds/LM/LM8364.pdf; ComponentLink3Description: LM8364 Web Page; ComponentLink3URL: http://www.national.com/pf/LM/LM8364.html; ComponentLink4Description: MF05A Package Page; ComponentLink4URL: http://www.national.com/packaging/folders/mf05a.html
footprint MF05A_N (SOT23, 5-Leads, Body 2.9x1.6mm, Pitch 0.95mm, Lead Span 2.8mm, IPC Medium Density)
footprint MF05A_L (SOT23, 5-Leads, Body 2.9x1.6mm, Pitch 0.95mm, Lead Span 2.8mm, IPC High Density)
footprint MF05A_M (SOT23, 5-Leads, Body 2.9x1.6mm, Pitch 0.95mm, Lead Span 2.8mm, IPC Low Density)
pins: 1 ~{RST} (oc), 2 IN (in), 3 GND (power), 4 NC, 5 NC

## LM8365BALMF27
designator U?
Micropower Undervoltage Sensing Circuits with Programmable Output Delay, 2.7V Threshold, 5-pin SOT-23; PartNumber: LM8365BALMF27; Manufacturer: National Semiconductor; PackageTopMarking: F07A*XTT; PowerWise: N; CompType: MiscPower; High-Reliability: Y; DatasheetVersion: Mar-2005; PackageVersion: revD, Aug-2008; PackageReference: MF05A; PackageDescription: Molded SOT-23, .115 x .063 x .040 in Body, 5 Lead, .0375 in Pitch; RoHS: N; PinCount: 5; ComponentLink1Description: Manufacturer URL; ComponentLink1URL: http://www.national.com/; ComponentLink2Description: LM8365 Datasheet; ComponentLink2URL: http://www.national.com/ds/LM/LM8365.pdf; ComponentLink3Description: LM8365 Web Page; ComponentLink3URL: http://www.national.com/pf/LM/LM8365.html; ComponentLink4Description: MF05A Package Page; ComponentLink4URL: http://www.national.com/packaging/folders/mf05a.html
footprint MF05A_N (SOT23, 5-Leads, Body 2.9x1.6mm, Pitch 0.95mm, Lead Span 2.8mm, IPC Medium Density)
footprint MF05A_L (SOT23, 5-Leads, Body 2.9x1.6mm, Pitch 0.95mm, Lead Span 2.8mm, IPC High Density)
footprint MF05A_M (SOT23, 5-Leads, Body 2.9x1.6mm, Pitch 0.95mm, Lead Span 2.8mm, IPC Low Density)
pins: 1 ~{RST} (oc), 2 IN (in), 3 GND (power), 4 NC, 5 NC

## LM8365BALMFX27
designator U?
Micropower Undervoltage Sensing Circuits with Programmable Output Delay, 5-pin SOT-23; PartNumber: LM8365BALMFX27; Manufacturer: National Semiconductor; PackageTopMarking: F07A*XTT; PowerWise: N; CompType: MiscPower; High-Reliability: Y; DatasheetVersion: Mar-2005; PackageVersion: revD, Aug-2008; PackageReference: MF05A; PackageDescription: Molded SOT-23, .115 x .063 x .040 in Body, 5 Lead, .0375 in Pitch; RoHS: N; PinCount: 5; ComponentLink1Description: Manufacturer URL; ComponentLink1URL: http://www.national.com/; ComponentLink2Description: LM8365 Datasheet; ComponentLink2URL: http://www.national.com/ds/LM/LM8365.pdf; ComponentLink3Description: LM8365 Web Page; ComponentLink3URL: http://www.national.com/pf/LM/LM8365.html; ComponentLink4Description: MF05A Package Page; ComponentLink4URL: http://www.national.com/packaging/folders/mf05a.html
footprint MF05A_N (SOT23, 5-Leads, Body 2.9x1.6mm, Pitch 0.95mm, Lead Span 2.8mm, IPC Medium Density)
footprint MF05A_L (SOT23, 5-Leads, Body 2.9x1.6mm, Pitch 0.95mm, Lead Span 2.8mm, IPC High Density)
footprint MF05A_M (SOT23, 5-Leads, Body 2.9x1.6mm, Pitch 0.95mm, Lead Span 2.8mm, IPC Low Density)
pins: 1 ~{RST} (oc), 2 IN (in), 3 GND (power), 4 NC, 5 NC

## LM8365BALMFX45
designator U?
Micropower Undervoltage Sensing Circuits with Programmable Output Delay, 5-pin SOT-23; PartNumber: LM8365BALMFX45; Manufacturer: National Semiconductor; PackageTopMarking: F06A*XTT; PowerWise: N; CompType: MiscPower; High-Reliability: Y; DatasheetVersion: Mar-2005; PackageVersion: revD, Aug-2008; PackageReference: MF05A; PackageDescription: Molded SOT-23, .115 x .063 x .040 in Body, 5 Lead, .0375 in Pitch; RoHS: N; PinCount: 5; ComponentLink1Description: Manufacturer URL; ComponentLink1URL: http://www.national.com/; ComponentLink2Description: LM8365 Datasheet; ComponentLink2URL: http://www.national.com/ds/LM/LM8365.pdf; ComponentLink3Description: LM8365 Web Page; ComponentLink3URL: http://www.national.com/pf/LM/LM8365.html; ComponentLink4Description: MF05A Package Page; ComponentLink4URL: http://www.national.com/packaging/folders/mf05a.html
footprint MF05A_N (SOT23, 5-Leads, Body 2.9x1.6mm, Pitch 0.95mm, Lead Span 2.8mm, IPC Medium Density)
footprint MF05A_L (SOT23, 5-Leads, Body 2.9x1.6mm, Pitch 0.95mm, Lead Span 2.8mm, IPC High Density)
footprint MF05A_M (SOT23, 5-Leads, Body 2.9x1.6mm, Pitch 0.95mm, Lead Span 2.8mm, IPC Low Density)
pins: 1 ~{RST} (oc), 2 IN (in), 3 GND (power), 4 NC, 5 NC

## LM8801TME-1.2/NOPB
designator U?
High Precision 6MHz, 600 mA Synchronous Step-Down DC-DC Converter for Mobile Applications, 6 pin MICRO SMD; PartNumber: LM8801TME-1.2/NOPB; Manufacturer: National Semiconductor; CompType: MiscPower; High-Reliability: Y; DatasheetVersion: Oct-2011; PackageVersion: revB, 2010; PackageReference: TMD06LCA; PackageDescription: Thin Micro SMD, 6 Bump, 0.4mm Pitch; RoHS: Y; PinCount: 6; ComponentLink1Description: Manufacturer URL; ComponentLink1URL: http://www.national.com/; ComponentLink2Description: LM8801 Datasheet; ComponentLink2URL: http://www.national.com/ds/LM/LM8801.pdf; ComponentLink3Description: LM8801 Web Page; ComponentLink3URL: http://www.national.com/pf/LM/LM8801.html; ComponentLink4Description: TMD06LCA Package Page; ComponentLink4URL: http://www.national.com/packaging/folders/tmd06lca.html
footprint TMD06LCA (Micro SMD, 6-Leads, Body 1.27x1.07mm, Pitch 0.4mm, NSC Recommended)
pins: A1 MODE (in), A2 VIN (power), B1 SW (power), B2 EN (in), C1 FB (in), C2 GND (power)

## LM8801TME-1.82/NOPB
designator U?
High Precision 6MHz, 600 mA Synchronous Step-Down DC-DC Converter for Mobile Applications, 6 pin MICRO SMD, 250 Reel; PartNumber: LM8801TME-1.82/NOPB; Manufacturer: National Semiconductor; PackageTopMarking: XV*I E; PowerWise: Y; CompType: MiscPower; DatasheetVersion: Oct-2011; PackageVersion: revB, 2010; PackageReference: TMD06LCA; PackageDescription: Thin Micro SMD, 6 Bump, 0.4mm Pitch; RoHS: Y; PinCount: 6; High-Reliability: Y; ComponentLink1Description: Manufacturer URL; ComponentLink1URL: http://www.national.com/; ComponentLink2Description: LM8801 Datasheet; ComponentLink2URL: http://www.national.com/ds/LM/LM8801.pdf; ComponentLink3Description: LM8801 Web Page; ComponentLink3URL: http://www.national.com/pf/LM/LM8801.html; ComponentLink4Description: TMD06LCA Package Page; ComponentLink4URL: http://www.national.com/packaging/folders/tmd06lca.html
footprint TMD06LCA (Micro SMD, 6-Leads, Body 1.27x1.07mm, Pitch 0.4mm, NSC Recommended)
pins: A1 MODE (in), A2 VIN (power), B1 SW (power), B2 EN (in), C1 FB (in), C2 GND (power)

## LM8801TME-2.9/NOPB
designator U?
High Precision 6MHz, 600 mA Synchronous Step-Down DC-DC Converter for Mobile Applications, 6-pin Micro SMD; PartNumber: LM8801TME-2.9/NOPB; Manufacturer: National Semiconductor; PackageTopMarking: XV*I S; PowerWise: N; CompType: MiscPower; High-Reliability: Y; DatasheetVersion: Oct-2011; PackageVersion: revB, 2010; PackageReference: TMD06LCA; PackageDescription: Thin Micro SMD, 6 Bump, 0.4mm Pitch; RoHS: Y; PinCount: 6; ComponentLink1Description: Manufacturer URL; ComponentLink1URL: http://www.national.com/; ComponentLink2Description: LM8801 Datasheet; ComponentLink2URL: http://www.national.com/ds/LM/LM8801.pdf; ComponentLink3Description: LM8801 Web Page; ComponentLink3URL: http://www.national.com/pf/LM/LM8801.html; ComponentLink4Description: TMD06LCA Package Page; ComponentLink4URL: http://www.national.com/packaging/folders/tmd06lca.html
footprint TMD06LCA (Micro SMD, 6-Leads, Body 1.27x1.07mm, Pitch 0.4mm, NSC Recommended)
pins: A1 MODE (in), A2 VIN (power), B1 SW (power), B2 EN (in), C1 FB (in), C2 GND (power)

## LM8801TMX-1.2/NOPB
designator U?
High Precision 6MHz, 600 mA Synchronous Step-Down DC-DC Converter for Mobile Applications, 6 pin MICRO SMD; PartNumber: LM8801TMX-1.2/NOPB; Manufacturer: National Semiconductor; CompType: MiscPower; High-Reliability: Y; DatasheetVersion: Oct-2011; PackageVersion: revB, 2010; PackageReference: TMD06LCA; PackageDescription: Thin Micro SMD, 6 Bump, 0.4mm Pitch; RoHS: Y; PinCount: 6; ComponentLink1Description: Manufacturer URL; ComponentLink1URL: http://www.national.com/; ComponentLink2Description: LM8801 Datasheet; ComponentLink2URL: http://www.national.com/ds/LM/LM8801.pdf; ComponentLink3Description: LM8801 Web Page; ComponentLink3URL: http://www.national.com/pf/LM/LM8801.html; ComponentLink4Description: TMD06LCA Package Page; ComponentLink4URL: http://www.national.com/packaging/folders/tmd06lca.html
footprint TMD06LCA (Micro SMD, 6-Leads, Body 1.27x1.07mm, Pitch 0.4mm, NSC Recommended)
pins: A1 MODE (in), A2 VIN (power), B1 SW (power), B2 EN (in), C1 FB (in), C2 GND (power)

## LM8801TMX-1.82/NOPB
designator U?
High Precision 6MHz, 600 mA Synchronous Step-Down DC-DC Converter for Mobile Applications, 6 pin MICRO SMD; PartNumber: LM8801TMX-1.82/NOPB; Manufacturer: National Semiconductor; PackageTopMarking: XV*I E; PowerWise: Y; CompType: MiscPower; DatasheetVersion: Oct-2011; PackageVersion: revB, 2010; PackageReference: TMD06LCA; PackageDescription: Thin Micro SMD, 6 Bump, 0.4mm Pitch; RoHS: Y; PinCount: 6; High-Reliability: Y; ComponentLink1Description: Manufacturer URL; ComponentLink1URL: http://www.national.com/; ComponentLink2Description: LM8801 Datasheet; ComponentLink2URL: http://www.national.com/ds/LM/LM8801.pdf; ComponentLink3Description: LM8801 Web Page; ComponentLink3URL: http://www.national.com/pf/LM/LM8801.html; ComponentLink4Description: TMD06LCA Package Page; ComponentLink4URL: http://www.national.com/packaging/folders/tmd06lca.html
footprint TMD06LCA (Micro SMD, 6-Leads, Body 1.27x1.07mm, Pitch 0.4mm, NSC Recommended)
pins: A1 MODE (in), A2 VIN (power), B1 SW (power), B2 EN (in), C1 FB (in), C2 GND (power)

## LM8801TMX-2.9/NOPB
designator U?
High Precision 6MHz, 600 mA Synchronous Step-Down DC-DC Converter for Mobile Applications, 6-pin Micro SMD; PartNumber: LM8801TMX-2.9/NOPB; Manufacturer: National Semiconductor; PackageTopMarking: XV*I S; PowerWise: N; CompType: MiscPower; High-Reliability: Y; DatasheetVersion: Oct-2011; PackageVersion: revB, 2010; PackageReference: TMD06LCA; PackageDescription: Thin Micro SMD, 6 Bump, 0.4mm Pitch; RoHS: Y; PinCount: 6; ComponentLink1Description: Manufacturer URL; ComponentLink1URL: http://www.national.com/; ComponentLink2Description: LM8801 Datasheet; ComponentLink2URL: http://www.national.com/ds/LM/LM8801.pdf; ComponentLink3Description: LM8801 Web Page; ComponentLink3URL: http://www.national.com/pf/LM/LM8801.html; ComponentLink4Description: TMD06LCA Package Page; ComponentLink4URL: http://www.national.com/packaging/folders/tmd06lca.html
footprint TMD06LCA (Micro SMD, 6-Leads, Body 1.27x1.07mm, Pitch 0.4mm, NSC Recommended)
pins: A1 MODE (in), A2 VIN (power), B1 SW (power), B2 EN (in), C1 FB (in), C2 GND (power)

## LM8801XUE-1.82/NOPB
designator U?
High Precision 6MHz, 600 mA Synchronous Step-Down DC-DC Converter for Mobile Applications, 6-pin Micro SMD, 250 Reel; PartNumber: LM8801XUE-1.82/NOPB; Manufacturer: National Semiconductor; PackageTopMarking: XV*I L; PowerWise: N; CompType: MiscPower; High-Reliability: Y; DatasheetVersion: Oct-2011; PackageVersion: revA, Mar-2011; PackageReference: XUD06LCA; PackageDescription: Thin Micro SMD, 6 Bump, 0.4 mm Pitch; RoHS: Y; PinCount: 6; ComponentLink1Description: Manufacturer URL; ComponentLink1URL: http://www.national.com/; ComponentLink2Description: LM8801 Datasheet; ComponentLink2URL: http://www.national.com/ds/LM/LM8801.pdf; ComponentLink3Description: LM8801 Web Page; ComponentLink3URL: http://www.national.com/pf/LM/LM8801.html; ComponentLink4Description: XUD06LCA Package Page; ComponentLink4URL: http://www.national.com/packaging/folders/xud06lca.html
footprint XUD06LCA (Micro SMD, 6-Leads, Body 1.27x1.07mm, Pitch 0.4mm, NSC Recommended)
pins: A1 MODE (in), A2 VIN (power), B1 SW (power), B2 EN (in), C1 FB (in), C2 GND (power)

## LM8801XUX-1.82/NOPB
designator U?
High Precision 6MHz, 600 mA Synchronous Step-Down DC-DC Converter for Mobile Applications, 6-pin Micro SMD, 3000 Reel; PartNumber: LM8801XUX-1.82/NOPB; Manufacturer: National Semiconductor; PackageTopMarking: XV*I L; PowerWise: N; CompType: MiscPower; High-Reliability: Y; DatasheetVersion: Oct-2011; PackageVersion: revA, Mar-2011; PackageReference: XUD06LCA; PackageDescription: Thin Micro SMD, 6 Bump, 0.4 mm Pitch; RoHS: Y; PinCount: 6; ComponentLink1Description: Manufacturer URL; ComponentLink1URL: http://www.national.com/; ComponentLink2Description: LM8801 Datasheet; ComponentLink2URL: http://www.national.com/ds/LM/LM8801.pdf; ComponentLink3Description: LM8801 Web Page; ComponentLink3URL: http://www.national.com/pf/LM/LM8801.html; ComponentLink4Description: XUD06LCA Package Page; ComponentLink4URL: http://www.national.com/packaging/folders/xud06lca.html
footprint XUD06LCA (Micro SMD, 6-Leads, Body 1.27x1.07mm, Pitch 0.4mm, NSC Recommended)
pins: A1 MODE (in), A2 VIN (power), B1 SW (power), B2 EN (in), C1 FB (in), C2 GND (power)

## LM8805TLE-3.0/NOPB
designator U?
Microprocessor Supervisory Circuits with Power Fail Input, Low Line Output, Manual Reset and Watchdog Timer, 9-pin Micro SMD, 250 Reel; PartNumber: LM8805TLE-3.0/NOPB; Manufacturer: National Semiconductor; PackageTopMarking: XV*I V4; PowerWise: N; CompType: MiscPower; High-Reliability: Y; DatasheetVersion: Sep-2011; PackageVersion: revC, Jan-2004; PackageReference: TLA09ZZA; PackageDescription: Thin Micro SMD, 9 Bump (Large), 0.5mm Pitch; RoHS: Y; PinCount: 9; Code_JEDEC: MO-211-DD; ComponentLink1Description: Manufacturer URL; ComponentLink1URL: http://www.national.com/; ComponentLink2Description: LM8805 Datasheet; ComponentLink2URL: http://www.national.com/ds/LM/LM8805.pdf; ComponentLink3Description: LM8805 Web Page; ComponentLink3URL: http://www.national.com/pf/LM/LM8805.html; ComponentLink4Description: TLA09ZZA Package Page; ComponentLink4URL: http://www.national.com/packaging/folders/tla09zza.html
footprint TLA09ZZA (Micro SMD, 9-Leads, Body 1.47x1.47mm, Pitch 0.5mm, NSC Recommended)
pins: A1 MR (in), A2 PFI (in), A3 WDI (in), B1 VCC (power), B2 NC, B3 GND (power), C1 ~{RESET} (out), C2 ~{PFO} (out), C3 ~{LLO} (out)

## LM8805TLE/NOPB
designator U?
Microprocessor Supervisory Circuits with Power Fail Input, Low Line Output, Manual Reset and Watchdog Timer, 9-pin Micro SMD, 250 Reel; PartNumber: LM8805TLE/NOPB; Manufacturer: National Semiconductor; PackageTopMarking: XV*I V3; PowerWise: N; CompType: MiscPower; High-Reliability: Y; DatasheetVersion: Sep-2011; PackageVersion: revC, Jan-2004; PackageReference: TLA09ZZA; PackageDescription: Thin Micro SMD, 9 Bump (Large), 0.5mm Pitch; RoHS: Y; PinCount: 9; Code_JEDEC: MO-211-DD; ComponentLink1Description: Manufacturer URL; ComponentLink1URL: http://www.national.com/; ComponentLink2Description: LM8805 Datasheet; ComponentLink2URL: http://www.national.com/ds/LM/LM8805.pdf; ComponentLink3Description: LM8805 Web Page; ComponentLink3URL: http://www.national.com/pf/LM/LM8805.html; ComponentLink4Description: TLA09ZZA Package Page; ComponentLink4URL: http://www.national.com/packaging/folders/tla09zza.html
footprint TLA09ZZA (Micro SMD, 9-Leads, Body 1.47x1.47mm, Pitch 0.5mm, NSC Recommended)
pins: A1 MR (in), A2 PFI (in), A3 WDI (in), B1 VCC (power), B2 NC, B3 GND (power), C1 ~{RESET} (out), C2 ~{PFO} (out), C3 ~{LLO} (out)

## LM8805TLX-3.0/NOPB
designator U?
Microprocessor Supervisory Circuits with Power Fail Input, Low Line Output, Manual Reset and Watchdog Timer, 9-pin Micro SMD, 3000 Reel; PartNumber: LM8805TLX-3.0/NOPB; Manufacturer: National Semiconductor; PackageTopMarking: XV*I V4; PowerWise: N; CompType: MiscPower; High-Reliability: Y; DatasheetVersion: Sep-2011; PackageVersion: revC, Jan-2004; PackageReference: TLA09ZZA; PackageDescription: Thin Micro SMD, 9 Bump (Large), 0.5mm Pitch; RoHS: Y; PinCount: 9; Code_JEDEC: MO-211-DD; ComponentLink1Description: Manufacturer URL; ComponentLink1URL: http://www.national.com/; ComponentLink2Description: LM8805 Datasheet; ComponentLink2URL: http://www.national.com/ds/LM/LM8805.pdf; ComponentLink3Description: LM8805 Web Page; ComponentLink3URL: http://www.national.com/pf/LM/LM8805.html; ComponentLink4Description: TLA09ZZA Package Page; ComponentLink4URL: http://www.national.com/packaging/folders/tla09zza.html
footprint TLA09ZZA (Micro SMD, 9-Leads, Body 1.47x1.47mm, Pitch 0.5mm, NSC Recommended)
pins: A1 MR (in), A2 PFI (in), A3 WDI (in), B1 VCC (power), B2 NC, B3 GND (power), C1 ~{RESET} (out), C2 ~{PFO} (out), C3 ~{LLO} (out)

## LM8805TLX/NOPB
designator U?
Microprocessor Supervisory Circuits with Power Fail Input, Low Line Output, Manual Reset and Watchdog Timer, 9-pin Micro SMD, 3000 Reel; PartNumber: LM8805TLX/NOPB; Manufacturer: National Semiconductor; PackageTopMarking: XV*I V3; PowerWise: N; CompType: MiscPower; High-Reliability: Y; DatasheetVersion: Sep-2011; PackageVersion: revC, Jan-2004; PackageReference: TLA09ZZA; PackageDescription: Thin Micro SMD, 9 Bump (Large), 0.5mm Pitch; RoHS: Y; PinCount: 9; Code_JEDEC: MO-211-DD; ComponentLink1Description: Manufacturer URL; ComponentLink1URL: http://www.national.com/; ComponentLink2Description: LM8805 Datasheet; ComponentLink2URL: http://www.national.com/ds/LM/LM8805.pdf; ComponentLink3Description: LM8805 Web Page; ComponentLink3URL: http://www.national.com/pf/LM/LM8805.html; ComponentLink4Description: TLA09ZZA Package Page; ComponentLink4URL: http://www.national.com/packaging/folders/tla09zza.html
footprint TLA09ZZA (Micro SMD, 9-Leads, Body 1.47x1.47mm, Pitch 0.5mm, NSC Recommended)
pins: A1 MR (in), A2 PFI (in), A3 WDI (in), B1 VCC (power), B2 NC, B3 GND (power), C1 ~{RESET} (out), C2 ~{PFO} (out), C3 ~{LLO} (out)

## LM8850URE/NOPB
designator U?
High-Performance, Step-Up DC-DC Converter for High-Power Applications in Mobile Devices, 9-pin Micro SMD, 250 Reel; PartNumber: LM8850URE/NOPB; Manufacturer: National Semiconductor; PackageTopMarking: XV*I SK; PowerWise: N; CompType: MiscPower; High-Reliability: Y; DatasheetVersion: Dec-2010; PackageVersion: revA, Dec-2010; PackageReference: URA09EGA; PackageDescription: Ultra-Thin Micro SMD, 9 Bump, 0.5 mm Pitch; RoHS: Y; PinCount: 9; ComponentLink1Description: Manufacturer URL; ComponentLink1URL: http://www.national.com/; ComponentLink2Description: LM8850 Datasheet; ComponentLink2URL: http://www.national.com/ds/LM/LM8850.pdf; ComponentLink3Description: LM8850 Web Page; ComponentLink3URL: http://www.national.com/pf/LM/LM8850.html; ComponentLink4Description: URA09EGA Package Page; ComponentLink4URL: http://www.national.com/packaging/folders/ura09ega.html
footprint URA09EGA (Micro SMD, 9-Leads, Body 1.62x1.58mm, Pitch 0.5mm, NSC Recommended)
pins: A1 VIN (power), A2 SW, A3 GND (power), B1 SDA, B2 PG, B3 VOUT (power), C1 SCLK (in), C2 EN (in), C3 BAL

## LM9044V
designator U?
Lambda Sensor Interface Amplifier, 20-pin PLCC; PartNumber: LM9044V; Manufacturer: National Semiconductor; PackageTopMarking: NSUZXYTTE#*LM9044V; PowerWise: N; CompType: MiscPower; High-Reliability: Y; DatasheetVersion: Nov-2001; PackageVersion: revL, Dec-1993; PackageReference: V20A; PackageDescription: Plastic Chip Carrier, Sq., .050in Pitch, 20 Lead; RoHS: N; PinCount: 20; Code_JEDEC: MO-047-AA; Code_IPC: PLCC-20; ComponentLink1Description: Manufacturer URL; ComponentLink1URL: http://www.national.com/; ComponentLink2Description: LM9044 Datasheet; ComponentLink2URL: http://www.national.com/ds/LM/LM9044.pdf; ComponentLink3Description: LM9044 Web Page; ComponentLink3URL: http://www.national.com/pf/LM/LM9044.html; ComponentLink4Description: V20A Package Page; ComponentLink4URL: http://www.national.com/packaging/folders/v20a.html
footprint V20A_N (Leaded Chip Carrier, 20-Leads, Body 9x9mm, Pitch 1.27mm, IPC Medium Density)
footprint V20A_L (Leaded Chip Carrier, 20-Leads, Body 9x9mm, Pitch 1.27mm, IPC High Density)
footprint V20A_M (Leaded Chip Carrier, 20-Leads, Body 9x9mm, Pitch 1.27mm, IPC Low Density)
pins: 1 TRIM, 2 GND (power), 3 TRIM, 4 TRIM, 5 -IN (in), 6 TRIM, 7 +IN (in), 8 TRIM, 9 TRIM, 10 TRIM, 11 TRIM, 12 VOUT (out), 13 TRIM, 14 TRIM, 15 RF, 16 TRIM, 17 VCC (power), 18 TRIM, 19 TRIM, 20 VREF (in)